# Altium schematic symbol library FT220X.SchLib: 1 symbol
Pins are listed as number, name and electrical type; pins without a type are passive.

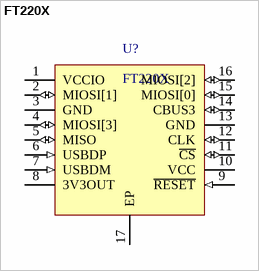
[diagram p0: symbol FT220X]

## FT220X
designator U?
USB to 4 Port SPI Interface Chip, 16-Pin QFN, USB 2.0 Compatible, -40°C to +85°C, Pb-Free, Tape and Reel
footprint 16-WQFN (QFN, 16-Leads, Body 4x4mm, Pitch 0.65mm, Thermal Pad 2.1x2.1mm, IPC Medium Density)
pins: 1 VCCIO (power) "1V8 -3V3 supply for the IO cells.", 2 MIOSI[1] (io) "Receiving Asynchronous Data Input.", 3 GND (power) "0V Ground input.", 4 MIOSI[3] (io) "Clear To Send Control Input / Handshake Signal.", 5 MISO (io) "Configurable CBUS I/O Pin. Function of this pin is configured in the device MTP memory. The default configuration is TXLED#.", 6 USBDP (in) "USB Data Signal Plus.", 7 USBDM (in) "USB Data Signal Minus.", 8 3V3OUT (power) "3V3 output at 50mA. May be used to power VCCIO. When VCC is 3V3; pin 8 is an input pin and should be connected to pin 10.", 9 ~{RESET} (in) "Reset input (active low).", 10 VCC (power) "5 V (or 3V3) supply to IC.", 11 ~{CS} (io) "Configurable CBUS I/O Pin. Function of this pin is configured in the device MTP memory. The default configuration is RXLED#.", 12 CLK (io) "Configurable CBUS I/O Pin. Function of this pin is configured in the device MTP memory. The default configuration is TXDEN.", 13 GND (power) "0V Ground input.", 14 CBUS3 (io) "Configurable CBUS I/O Pin. Function of this pin is configured in the device MTP memory. The default configuration is SLEEP#.", 15 MIOSI[0] (io) "Transmit Asynchronous Data Output.", 16 MIOSI[2] (io) "Request to Send Control Output / Handshake Signal.", 17 EP (power) "Exposed Pad. Connect to GND."
1 alternate drawing of the same symbol